# EAGLE library part MICRO-SD (library SD Card)
MICRO SD PUSH PUSH LOW PROFILE TYPE
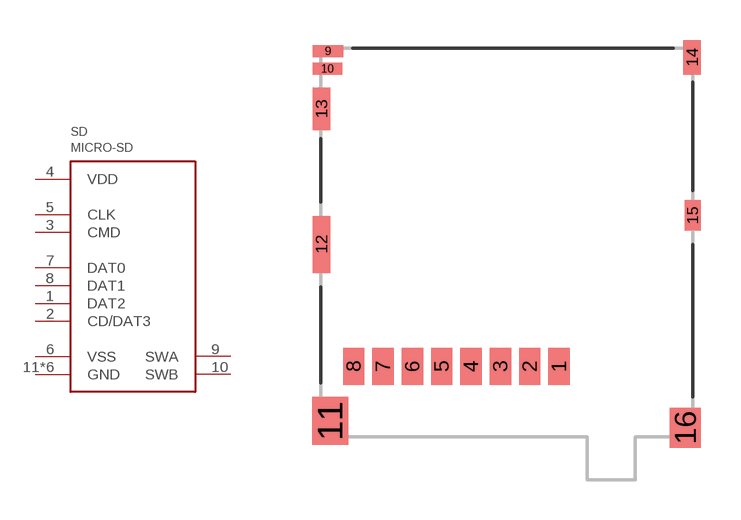
[diagram p0: symbol with the pads of TE-2201778-1; footprint TE-2201778-1]

Designator prefix SD

## MICRO-SD (MANUFACTURER: TE Connectivity; PARTREV: B; STANDARD: Manufacturer recommendations)  [TE-2201778-1]
1  DAT2
2  CD/DAT3
3  CMD
4  VDD  pwr
5  CLK  in
6  VSS  pwr
7  DAT0
8  DAT1
9  SWA  pas
10  SWB  pas
11  GND  pwr
12  GND  pwr
13  GND  pwr
14  GND  pwr
15  GND  pwr
16  GND  pwr

## Footprint TE-2201778-1 (pad centres in mm)
smd 0.8 x 1.4: 1 1.965,-4.75; 2 0.865,-4.75; 3 -0.235,-4.75; 4 -1.335,-4.75; 5 -2.435,-4.75; 6 -3.535,-4.75; 7 -4.635,-4.75; 8 -5.735,-4.75
smd 1.15 x 0.45: 9 -6.7,7.075
smd 1.1 x 0.45: 10 -6.725,6.415
smd 1.35 x 1.8: 11 -6.625,-6.8
smd 0.65 x 2.14: 12 -6.95,-0.17
smd 0.65 x 1.6: 13 -6.95,4.91
smd 0.65 x 1.3: 14 6.95,6.85
smd 0.6 x 1.15: 15 6.975,0.925
smd 1.16 x 1.5: 16 6.695,-7.05